# EAGLE library part 7400QUADNAND (library ZMPLC)
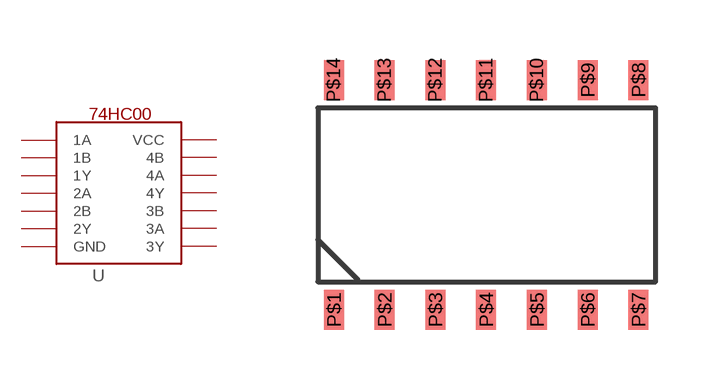
[diagram p5: symbol with the pads of SOIC14_D; footprint SOIC14_D]

Designator prefix -

## 7400QUADNAND  [SOIC14_D]
P$1  1A
P$2  1B
P$3  1Y
P$4  2A
P$5  2B
P$6  2Y
P$7  GND  pwr
P$8  3Y
P$9  3A
P$10  3B
P$11  4Y
P$12  4A
P$13  4B
P$14  VCC  pwr

## Footprint SOIC14_D (pad centres in mm)
smd 0.5 x 1: P$1 0,-5.75; P$2 1.27,-5.75; P$3 2.54,-5.75; P$4 3.81,-5.75; P$5 5.08,-5.75; P$6 6.35,-5.75; P$7 7.62,-5.75; P$8 7.62,0; P$9 6.35,0; P$10 5.08,0; P$11 3.81,0; P$12 2.54,0; P$13 1.27,0; P$14 0,0